# Altium schematic symbol library FQP47P06.SchLib: 1 symbol
Pins are listed as number, name and electrical type; pins without a type are passive.

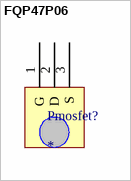
[diagram p0: symbol FQP47P06]

## FQP47P06
designator Pmosfet?
footprint PCBComponent_1
pins: 1 G, 2 D, 3 S